# Altium footprint library MCU_PcbLib.PcbLib: 21 footprints (part 1 of 2)
Each footprint in its own frame and in the unit in brackets; x right, y up, seen from the top. Pads: shape width x height; smd on the part's side, far side on the other; paste and mask are expansions set on the pad; w line width, h text height; cw(c..) or ccw(c..) is an arc to the next point about the centre after c.
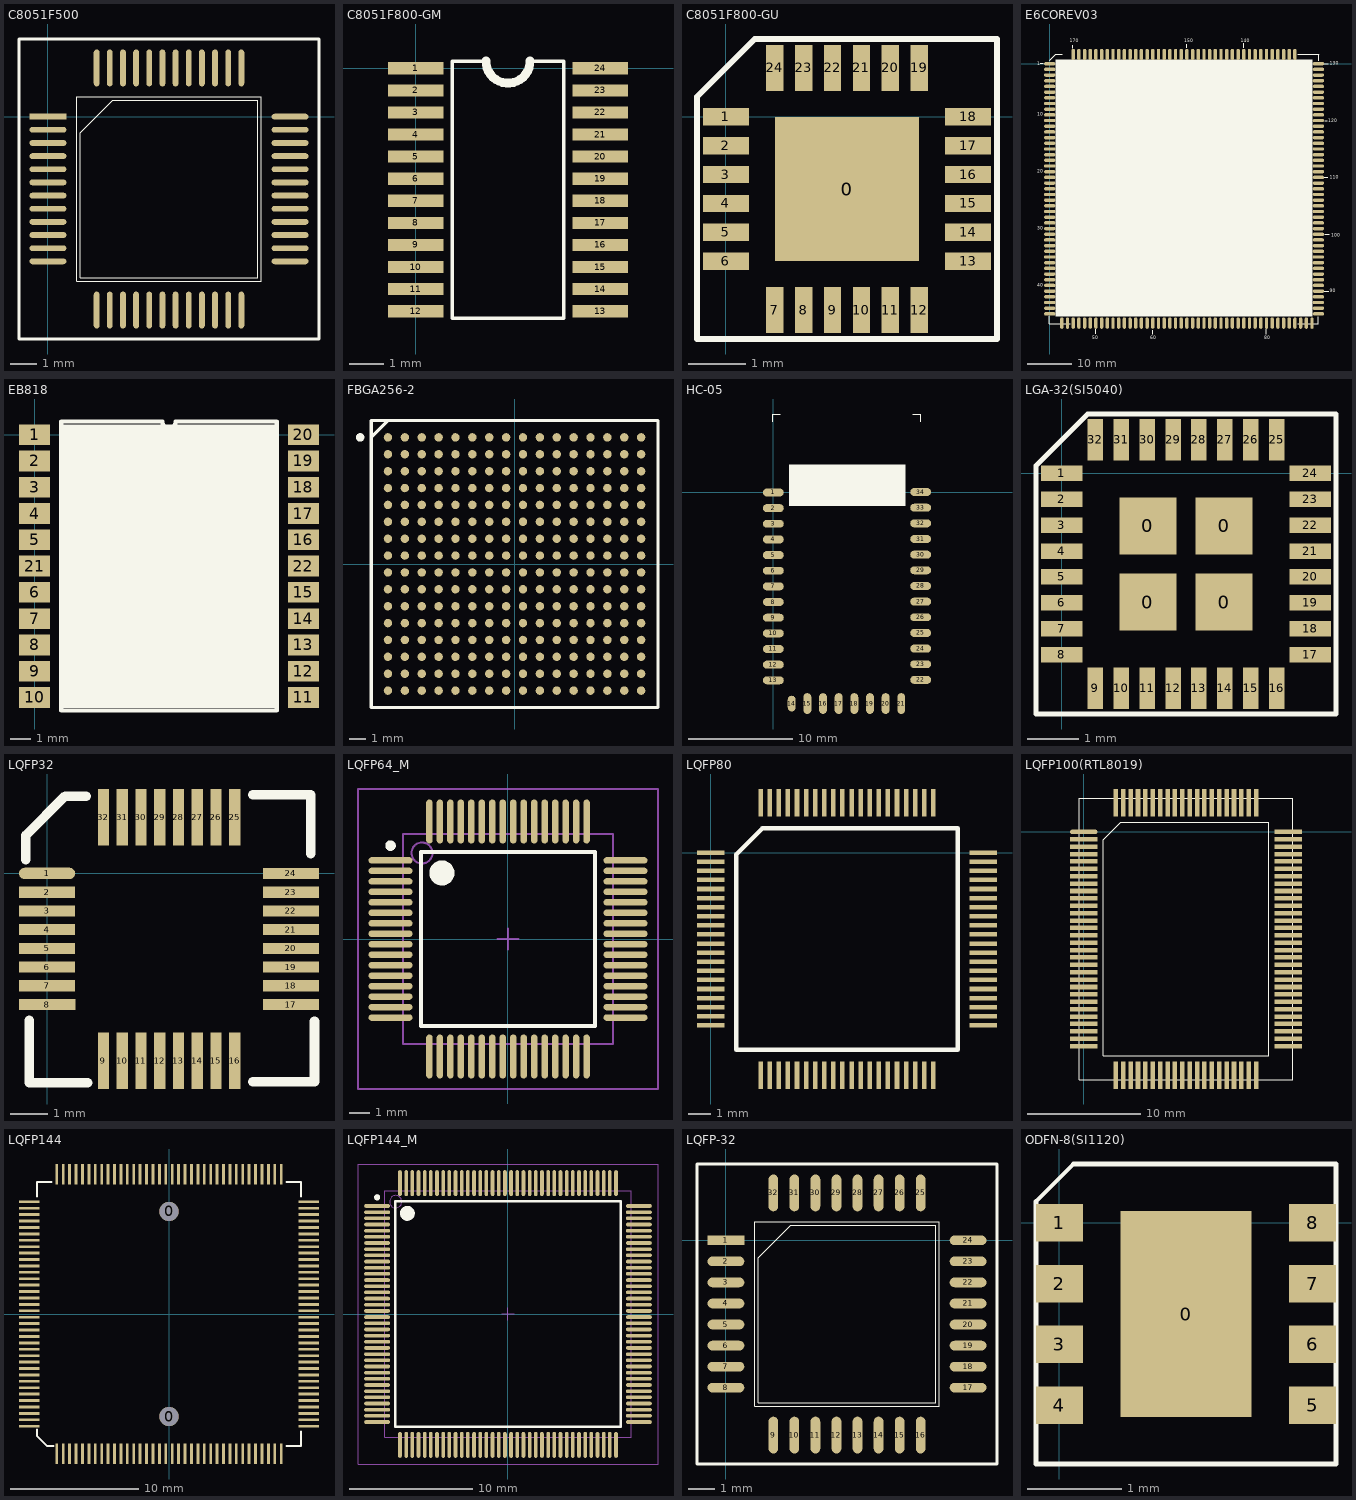
[diagram p0: the footprints below, top view; thin cyan lines are the x and y axes]

## C8051F500 [mm]
pads (48):
  rect 1.4x0.22 smd: 1(0,0)
  oval 1.4x0.22 smd: 2(0,-0.5) 3(0,-1) 4(0,-1.5) 5(0,-2) 6(0,-2.5) 7(0,-3) 8(0,-3.5) 9(0,-4) 10(0,-4.5) 11(0,-5) 12(0,-5.5) 25(9.2,-5.5) 26(9.2,-5) 27(9.2,-4.5) 28(9.2,-4) 29(9.2,-3.5) 30(9.2,-3) 31(9.2,-2.5) 32(9.2,-2) 33(9.2,-1.5) 34(9.2,-1) 35(9.2,-0.5) 36(9.2,0)
  oval 0.22x1.4 smd: 13(1.85,-7.35) 14(2.35,-7.35) 15(2.85,-7.35) 16(3.35,-7.35) 17(3.85,-7.35) 18(4.35,-7.35) 19(4.85,-7.35) 20(5.35,-7.35) 21(5.85,-7.35) 22(6.35,-7.35) 23(6.85,-7.35) 24(7.35,-7.35) 37(7.35,1.85) 38(6.85,1.85) 39(6.35,1.85) 40(5.85,1.85) 41(5.35,1.85) 42(4.85,1.85) 43(4.35,1.85) 44(3.85,1.85) 45(3.35,1.85) 46(2.85,1.85) 47(2.35,1.85) 48(1.85,1.85)
Top Overlay:
  lines w0.025: 1.1,-6.25 1.1,-2.75 1.1,0.675 1.1,0.75 8.1,0.75 8.1,-6.25 1.1,-6.25 ; 1.235,-6.115 7.965,-6.115 7.965,0.615 2.47,0.615 1.235,-0.62 1.235,-6.115
  lines w0.102: -1.1,-8.45 10.3,-8.45 10.3,2.95 -1.1,2.95 -1.1,-8.45

## C8051F800-GM [mm]
pads (24):
  rect 1.6x0.35 smd: 1(0,0) 2(0,-0.635) 3(0,-1.27) 4(0,-1.905) 5(0,-2.54) 6(0,-3.175) 7(0,-3.81) 8(0,-4.445) 9(0,-5.08) 10(0,-5.715) 11(0,-6.35) 12(0,-6.985) 13(5.3,-6.985) 14(5.3,-6.35) 15(5.3,-5.715) 16(5.3,-5.08) 17(5.3,-4.445) 18(5.3,-3.81) 19(5.3,-3.175) 20(5.3,-2.54) 21(5.3,-1.905) 22(5.3,-1.27) 23(5.3,-0.635) 24(5.3,0)
Top Overlay:
  lines w0.1: 2.015,0.208 1.05,0.208 1.05,-7.193 4.25,-7.193 4.25,0.208 3.285,0.208
  lines w0.254: 2.015,0.208 ccw(c2.65,0.208) 3.285,0.208

## C8051F800-GU [mm]
pads (25):
  rect 2.5x2.5 smd: 0(2.1,-1.25)
  rect 0.8x0.3 smd: 1(0,0) 2(0,-0.5) 3(0,-1) 4(0,-1.5) 5(0,-2) 6(0,-2.5) 13(4.2,-2.5) 14(4.2,-2) 15(4.2,-1.5) 16(4.2,-1) 17(4.2,-0.5) 18(4.2,0)
  rect 0.3x0.8 smd: 7(0.85,-3.35) 8(1.35,-3.35) 9(1.85,-3.35) 10(2.35,-3.35) 11(2.85,-3.35) 12(3.35,-3.35) 19(3.35,0.85) 20(2.85,0.85) 21(2.35,0.85) 22(1.85,0.85) 23(1.35,0.85) 24(0.85,0.85)
Top Overlay:
  lines w0.1: -0.5,-3.85 4.7,-3.85 4.7,1.35 0.5,1.35 -0.5,0.35 -0.5,-3.85

## E6COREV03 [mil]
pads (175):
  oval 100x30 smd: 1(0,0) 2(0,-50) 3(0,-100) 4(0,-150) 5(0,-200) 6(0,-250) 7(0,-300) 8(0,-350) 9(0,-400) 10(0,-450) 11(0,-500) 12(0,-550) 13(0,-600) 14(0,-650) 15(0,-700) 16(0,-750) 17(0,-800) 18(0,-850) 19(0,-900) 20(0,-950) 21(0,-1000) 22(0,-1050) 23(0,-1100) 24(0,-1150) 25(0,-1200) 26(0,-1250) 27(0,-1300) 28(0,-1350) 29(0,-1400) 30(0,-1450) 31(0,-1500) 32(0,-1550) 33(0,-1600) 34(0,-1650) 35(0,-1700) 36(0,-1750) 37(0,-1800) 38(0,-1850) 39(0,-1900) 40(0,-1950) 41(0,-2000) 42(0,-2050) 43(0,-2100) 44(0,-2150) 45(0,-2200) 86(2362.2,-2200) 87(2362.2,-2150) 88(2362.2,-2100) 89(2362.2,-2050) 90(2362.2,-2000) 91(2362.2,-1950) 92(2362.2,-1900) 93(2362.2,-1850) 94(2362.2,-1800) 95(2362.2,-1750) 96(2362.2,-1700) 97(2362.2,-1650) 98(2362.2,-1600) 99(2362.2,-1550) 100(2362.2,-1500) 101(2362.2,-1450) 102(2362.2,-1400) 103(2362.2,-1350) 104(2362.2,-1300) 105(2362.2,-1250) 106(2362.2,-1200) 107(2362.2,-1150) 108(2362.2,-1100) 109(2362.2,-1050) 110(2362.2,-1000) 111(2362.2,-950) 112(2362.2,-900) 113(2362.2,-850) 114(2362.2,-800) 115(2362.2,-750) 116(2362.2,-700) 117(2362.2,-650) 118(2362.2,-600) 119(2362.2,-550) 120(2362.2,-500) 121(2362.2,-450) 122(2362.2,-400) 123(2362.2,-350) 124(2362.2,-300) 125(2362.2,-250) 126(2362.2,-200) 127(2362.2,-150) 128(2362.2,-100) 129(2362.2,-50) 130(2362.2,0)
  oval 30x100 smd: 46(206.1,-2281.1) 47(256.1,-2281.1) 48(306.1,-2281.1) 49(356.1,-2281.1) 50(406.1,-2281.1) 51(456.1,-2281.1) 52(506.1,-2281.1) 53(556.1,-2281.1) 54(606.1,-2281.1) 55(656.1,-2281.1) 56(706.1,-2281.1) 57(756.1,-2281.1) 58(806.1,-2281.1) 59(856.1,-2281.1) 60(906.1,-2281.1) 61(956.1,-2281.1) 62(1006.1,-2281.1) 63(1056.1,-2281.1) 64(1106.1,-2281.1) 65(1156.1,-2281.1) 66(1206.1,-2281.1) 67(1256.1,-2281.1) 68(1306.1,-2281.1) 69(1356.1,-2281.1) 70(1406.1,-2281.1) 71(1456.1,-2281.1) 72(1506.1,-2281.1) 73(1556.1,-2281.1) 74(1606.1,-2281.1) 75(1656.1,-2281.1) 76(1706.1,-2281.1) 77(1756.1,-2281.1) 78(1806.1,-2281.1) 79(1856.1,-2281.1) 80(1906.1,-2281.1) 81(1956.1,-2281.1) 82(2006.1,-2281.1) 83(2056.1,-2281.1) 84(2106.1,-2281.1) 85(2156.1,-2281.1) 131(2156.1,81.1) 132(2106.1,81.1) 133(2056.1,81.1) 134(2006.1,81.1) 135(1956.1,81.1) 136(1906.1,81.1) 137(1856.1,81.1) 138(1806.1,81.1) 139(1756.1,81.1) 140(1706.1,81.1) 141(1656.1,81.1) 142(1606.1,81.1) 143(1556.1,81.1) 144(1506.1,81.1) 145(1456.1,81.1) 146(1406.1,81.1) 147(1356.1,81.1) 148(1306.1,81.1) 149(1256.1,81.1) 150(1206.1,81.1) 151(1156.1,81.1) 152(1106.1,81.1) 153(1056.1,81.1) 154(1006.1,81.1) 155(956.1,81.1) 156(906.1,81.1) 157(856.1,81.1) 158(806.1,81.1) 159(756.1,81.1) 160(706.1,81.1) 161(656.1,81.1) 162(606.1,81.1) 163(556.1,81.1) 164(506.1,81.1) 165(456.1,81.1) 166(406.1,81.1) 167(356.1,81.1) 168(306.1,81.1) 169(256.1,81.1) 170(206.1,81.1) A1(106.1,-2281.1) A2(156.1,-2281.1) A3(2206.1,-2281.1) A4(2256.1,-2281.1) A5(2306.1,-2281.1)
Top Overlay:
  rectangle: 50.1,-2223.1 2310.1,34.9
  lines w5: -3.9,-2220 -3.9,-2285 6.1,-2285 181.1,-2285 ; 2181.1,-2285 2361.1,-2285 2361.1,-2225 ; 2181.1,85 2361.1,85 2366.1,80 2366.1,25
  lines w6: -81.9,2 -57.9,2 ; 202.1,137 202.1,161 203.1,162 ; 404.1,-2377 404.1,-2336 ; 907.1,-2378 907.1,-2344 ; 1206.1,138 1206.1,172 ; 1706.1,139 1706.1,178 ; 1904.1,-2381 1904.1,-2337 ; 2414.1,-1999 2452.1,-1999 ; 2414.1,1 2436.1,1 ; 2415.1,-998 2445.1,-998 ; 2416.1,-1501.1 2439.1,-1501.1 ; 2417.1,-500 2439.1,-500 ; 2434.1,1 2450.1,1 ; 2441.1,-1501.1 2456.1,-1501.1
  lines w7.87: 0,29.92 51.18,81.1 110.23,81.1
  lines w10: 0,29.92 51.18,81.1
  text "10" at -109.9,-460 h30
  text "1" at -109.9,-14 h30
  text "20" at -109.9,-959 h30
  text "30" at -109.9,-1459 h30
  text "40" at -109.9,-1960 h30
  text "50" at 375.1,-2421 h30
  text "60" at 885.1,-2421 h30
  text "80" at 1887.1,-2421 h30
  text "90" at 2460.1,-2011 h30
  text "100" at 2476.1,-1521.1 h30
  text "110" at 2460.1,-1013 h30
  text "120" at 2447.1,-514 h30
  text "130" at 2460.1,-11 h30
  text "140" at 1680.1,187 h30
  text "150" at 1183.1,187 h30
  text "170" at 175.1,187 h30
Keep-Out Layer:
  lines w5: 615.1,-1497.6 1768.1,-1497.6 1767.75,-1497.25 1767.75,-1472 ; 624.1,-1497.6 547.7,-1497.6 547.28,-1497.18 547.28,-1480 547.28,-592.91 548.1,-592.09 1767.67,-592.09 1767.67,-1472.91 1767.75,-1473

## EB818 [mm]
pads (22):
  rect 1.5x1 smd: 1(0,0) 2(0,-1.27) 3(0,-2.54) 4(0,-3.81) 5(0,-5.08) 6(0,-7.62) 7(0,-8.89) 8(0,-10.16) 9(0,-11.43) 10(0,-12.7) 11(13,-12.7) 12(13,-11.43) 13(13,-10.16) 14(13,-8.89) 15(13,-7.62) 16(13,-5.08) 17(13,-3.81) 18(13,-2.54) 19(13,-1.27) 20(13,0) 21(0,-6.35) 22(13,-6.35)
Top Overlay:
  rectangle: 1.399,-13.218 11.705,0.498
  lines w0.2: 1.295,-13.335 11.705,-13.335 11.705,0.635 6.817,0.635 cw(c6.5,0.635) 6.182,0.635 1.295,0.635 1.295,-13.335

## FBGA256-2 [mm]
pads (256):
  round 0.5 smd: A1(-7.5,7.5) A2(-6.5,7.5) A3(-5.5,7.5) A4(-4.5,7.5) A5(-3.5,7.5) A6(-2.5,7.5) A7(-1.5,7.5) A8(-0.5,7.5) A9(0.5,7.5) A10(1.5,7.5) A11(2.5,7.5) A12(3.5,7.5) A13(4.5,7.5) A14(5.5,7.5) A15(6.5,7.5) A16(7.5,7.5) B1(-7.5,6.5) B2(-6.5,6.5) B3(-5.5,6.5) B4(-4.5,6.5) B5(-3.5,6.5) B6(-2.5,6.5) B7(-1.5,6.5) B8(-0.5,6.5) B9(0.5,6.5) B10(1.5,6.5) B11(2.5,6.5) B12(3.5,6.5) B13(4.5,6.5) B14(5.5,6.5) B15(6.5,6.5) B16(7.5,6.5) C1(-7.5,5.5) C2(-6.5,5.5) C3(-5.5,5.5) C4(-4.5,5.5) C5(-3.5,5.5) C6(-2.5,5.5) C7(-1.5,5.5) C8(-0.5,5.5) C9(0.5,5.5) C10(1.5,5.5) C11(2.5,5.5) C12(3.5,5.5) C13(4.5,5.5) C14(5.5,5.5) C15(6.5,5.5) C16(7.5,5.5) D1(-7.5,4.5) D2(-6.5,4.5) D3(-5.5,4.5) D4(-4.5,4.5) D5(-3.5,4.5) D6(-2.5,4.5) D7(-1.5,4.5) D8(-0.5,4.5) D9(0.5,4.5) D10(1.5,4.5) D11(2.5,4.5) D12(3.5,4.5) D13(4.5,4.5) D14(5.5,4.5) D15(6.5,4.5) D16(7.5,4.5) E1(-7.5,3.5) E2(-6.5,3.5) E3(-5.5,3.5) E4(-4.5,3.5) E5(-3.5,3.5) E6(-2.5,3.5) E7(-1.5,3.5) E8(-0.5,3.5) E9(0.5,3.5) E10(1.5,3.5) E11(2.5,3.5) E12(3.5,3.5) E13(4.5,3.5) E14(5.5,3.5) E15(6.5,3.5) E16(7.5,3.5) F1(-7.5,2.5) F2(-6.5,2.5) F3(-5.5,2.5) F4(-4.5,2.5) F5(-3.5,2.5) F6(-2.5,2.5) F7(-1.5,2.5) F8(-0.5,2.5) F9(0.5,2.5) F10(1.5,2.5) F11(2.5,2.5) F12(3.5,2.5) F13(4.5,2.5) F14(5.5,2.5) F15(6.5,2.5) F16(7.5,2.5) G1(-7.5,1.5) G2(-6.5,1.5) G3(-5.5,1.5) G4(-4.5,1.5) G5(-3.5,1.5) G6(-2.5,1.5) G7(-1.5,1.5) G8(-0.5,1.5) G9(0.5,1.5) G10(1.5,1.5) G11(2.5,1.5) G12(3.5,1.5) G13(4.5,1.5) G14(5.5,1.5) G15(6.5,1.5) G16(7.5,1.5) H1(-7.5,0.5) H2(-6.5,0.5) H3(-5.5,0.5) H4(-4.5,0.5) H5(-3.5,0.5) H6(-2.5,0.5) H7(-1.5,0.5) H8(-0.5,0.5) H9(0.5,0.5) H10(1.5,0.5) H11(2.5,0.5) H12(3.5,0.5) H13(4.5,0.5) H14(5.5,0.5) H15(6.5,0.5) H16(7.5,0.5) J1(-7.5,-0.5) J2(-6.5,-0.5) J3(-5.5,-0.5) J4(-4.5,-0.5) J5(-3.5,-0.5) J6(-2.5,-0.5) J7(-1.5,-0.5) J8(-0.5,-0.5) J9(0.5,-0.5) J10(1.5,-0.5) J11(2.5,-0.5) J12(3.5,-0.5) J13(4.5,-0.5) J14(5.5,-0.5) J15(6.5,-0.5) J16(7.5,-0.5) K1(-7.5,-1.5) K2(-6.5,-1.5) K3(-5.5,-1.5) K4(-4.5,-1.5) K5(-3.5,-1.5) K6(-2.5,-1.5) K7(-1.5,-1.5) K8(-0.5,-1.5) K9(0.5,-1.5) K10(1.5,-1.5) K11(2.5,-1.5) K12(3.5,-1.5) K13(4.5,-1.5) K14(5.5,-1.5) K15(6.5,-1.5) K16(7.5,-1.5) L1(-7.5,-2.5) L2(-6.5,-2.5) L3(-5.5,-2.5) L4(-4.5,-2.5) L5(-3.5,-2.5) L6(-2.5,-2.5) L7(-1.5,-2.5) L8(-0.5,-2.5) L9(0.5,-2.5) L10(1.5,-2.5) L11(2.5,-2.5) L12(3.5,-2.5) L13(4.5,-2.5) L14(5.5,-2.5) L15(6.5,-2.5) L16(7.5,-2.5) M1(-7.5,-3.5) M2(-6.5,-3.5) M3(-5.5,-3.5) M4(-4.5,-3.5) M5(-3.5,-3.5) M6(-2.5,-3.5) M7(-1.5,-3.5) M8(-0.5,-3.5) M9(0.5,-3.5) M10(1.5,-3.5) M11(2.5,-3.5) M12(3.5,-3.5) M13(4.5,-3.5) M14(5.5,-3.5) M15(6.5,-3.5) M16(7.5,-3.5) N1(-7.5,-4.5) N2(-6.5,-4.5) N3(-5.5,-4.5) N4(-4.5,-4.5) N5(-3.5,-4.5) N6(-2.5,-4.5) N7(-1.5,-4.5) N8(-0.5,-4.5) N9(0.5,-4.5) N10(1.5,-4.5) N11(2.5,-4.5) N12(3.5,-4.5) N13(4.5,-4.5) N14(5.5,-4.5) N15(6.5,-4.5) N16(7.5,-4.5) P1(-7.5,-5.5) P2(-6.5,-5.5) P3(-5.5,-5.5) P4(-4.5,-5.5) P5(-3.5,-5.5) P6(-2.5,-5.5) P7(-1.5,-5.5) P8(-0.5,-5.5) P9(0.5,-5.5) P10(1.5,-5.5) P11(2.5,-5.5) P12(3.5,-5.5) P13(4.5,-5.5) P14(5.5,-5.5) P15(6.5,-5.5) P16(7.5,-5.5) R1(-7.5,-6.5) R2(-6.5,-6.5) R3(-5.5,-6.5) R4(-4.5,-6.5) R5(-3.5,-6.5) R6(-2.5,-6.5) R7(-1.5,-6.5) R8(-0.5,-6.5) R9(0.5,-6.5) R10(1.5,-6.5) R11(2.5,-6.5) R12(3.5,-6.5) R13(4.5,-6.5) R14(5.5,-6.5) R15(6.5,-6.5) R16(7.5,-6.5) T1(-7.5,-7.5) T2(-6.5,-7.5) T3(-5.5,-7.5) T4(-4.5,-7.5) T5(-3.5,-7.5) T6(-2.5,-7.5) T7(-1.5,-7.5) T8(-0.5,-7.5) T9(0.5,-7.5) T10(1.5,-7.5) T11(2.5,-7.5) T12(3.5,-7.5) T13(4.5,-7.5) T14(5.5,-7.5) T15(6.5,-7.5) T16(7.5,-7.5)
Top Overlay:
  circle w0.25: c-9.15,7.5 r0.125
  lines w0.2: -8.5,7.5 -7.5,8.5 ; -8.5,-8.5 8.5,-8.5 8.5,8.5 -8.5,8.5 -8.5,-8.5

## HC-05 [mm]
pads (34):
  oval 2x0.76 smd: 1(0,0) 2(0,-1.5) 3(0,-3) 4(0,-4.5) 5(0,-6) 6(0,-7.5) 7(0,-9) 8(0,-10.5) 9(0,-12) 10(0,-13.5) 11(0,-15) 12(0,-16.5) 13(0,-18) 22(14.12,-17.96) 23(14.12,-16.46) 24(14.12,-14.96) 25(14.12,-13.46) 26(14.12,-11.96) 27(14.12,-10.46) 28(14.12,-8.96) 29(14.12,-7.46) 30(14.12,-5.96) 31(14.12,-4.46) 32(14.12,-2.96) 33(14.12,-1.46) 34(14.12,0.04)
  oval 0.76x1.5 smd: 14(1.76,-20.23)
  oval 0.76x2 smd: 15(3.26,-20.23) 16(4.76,-20.23) 17(6.26,-20.23) 18(7.76,-20.23) 19(9.26,-20.23) 20(10.76,-20.23) 21(12.26,-20.23)
Top Overlay:
  region: 12.679,-1.305 12.679,2.695 1.479,2.695 1.479,-1.305
  lines w0.1: -0.07,6.77 -0.07,7.52 0.68,7.52 ; 13.38,7.52 14.13,7.52 14.13,6.77

## LGA-32(SI5040) [mm]
pads (36):
  rect 1.1x1.1 smd: 0(1.665,-2.485) 0(1.665,-1.015) 0(3.135,-2.485) 0(3.135,-1.015)
  rect 0.8x0.3 smd: 1(0,0) 2(0,-0.5) 3(0,-1) 4(0,-1.5) 5(0,-2) 6(0,-2.5) 7(0,-3) 8(0,-3.5) 17(4.8,-3.5) 18(4.8,-3) 19(4.8,-2.5) 20(4.8,-2) 21(4.8,-1.5) 22(4.8,-1) 23(4.8,-0.5) 24(4.8,0)
  rect 0.3x0.8 smd: 9(0.65,-4.15) 10(1.15,-4.15) 11(1.65,-4.15) 12(2.15,-4.15) 13(2.65,-4.15) 14(3.15,-4.15) 15(3.65,-4.15) 16(4.15,-4.15) 25(4.15,0.65) 26(3.65,0.65) 27(3.15,0.65) 28(2.65,0.65) 29(2.15,0.65) 30(1.65,0.65) 31(1.15,0.65) 32(0.65,0.65)
Top Overlay:
  lines w0.1: -0.5,-4.65 -0.5,0.15 0.5,1.15 5.3,1.15 5.3,-4.65 -0.5,-4.65

## LQFP32 [mm]
pads (32):
  oval 1.5x0.3 smd: 1(0,0)
  rect 1.5x0.3 smd: 2(0,-0.5) 3(0,-1) 4(0,-1.5) 5(0,-2) 6(0,-2.5) 7(0,-3) 8(0,-3.5) 17(6.5,-3.5) 18(6.5,-3) 19(6.5,-2.5) 20(6.5,-2) 21(6.5,-1.5) 22(6.5,-1) 23(6.5,-0.5) 24(6.5,0)
  rect 0.3x1.5 smd: 9(1.5,-5) 10(2,-5) 11(2.5,-5) 12(3,-5) 13(3.5,-5) 14(4,-5) 15(4.5,-5) 16(5,-5) 25(5,1.5) 26(4.5,1.5) 27(4,1.5) 28(3.5,1.5) 29(3,1.5) 30(2.5,1.5) 31(2,1.5) 32(1.5,1.5)
Top Overlay:
  lines w0.254: -0.57,0.36 -0.57,1.01 0.48,2.06 1.04,2.06 ; -0.48,-3.92 -0.48,-5.58 1.08,-5.58 ; 5.48,-5.56 7.13,-5.56 7.13,-3.94 ; 5.48,2.1 7.03,2.1 7.03,0.53

## LQFP64_M [mm]
pads (64):
  oval 2.1x0.3 smd: 1(-5.6,3.75) 2(-5.6,3.25) 3(-5.6,2.75) 4(-5.6,2.25) 5(-5.6,1.75) 6(-5.6,1.25) 7(-5.6,0.75) 8(-5.6,0.25) 9(-5.6,-0.25) 10(-5.6,-0.75) 11(-5.6,-1.25) 12(-5.6,-1.75) 13(-5.6,-2.25) 14(-5.6,-2.75) 15(-5.6,-3.25) 16(-5.6,-3.75) 33(5.6,-3.75) 34(5.6,-3.25) 35(5.6,-2.75) 36(5.6,-2.25) 37(5.6,-1.75) 38(5.6,-1.25) 39(5.6,-0.75) 40(5.6,-0.25) 41(5.6,0.25) 42(5.6,0.75) 43(5.6,1.25) 44(5.6,1.75) 45(5.6,2.25) 46(5.6,2.75) 47(5.6,3.25) 48(5.6,3.75)
  oval 0.3x2.1 smd: 17(-3.75,-5.6) 18(-3.25,-5.6) 19(-2.75,-5.6) 20(-2.25,-5.6) 21(-1.75,-5.6) 22(-1.25,-5.6) 23(-0.75,-5.6) 24(-0.25,-5.6) 25(0.25,-5.6) 26(0.75,-5.6) 27(1.25,-5.6) 28(1.75,-5.6) 29(2.25,-5.6) 30(2.75,-5.6) 31(3.25,-5.6) 32(3.75,-5.6) 49(3.75,5.6) 50(3.25,5.6) 51(2.75,5.6) 52(2.25,5.6) 53(1.75,5.6) 54(1.25,5.6) 55(0.75,5.6) 56(0.25,5.6) 57(-0.25,5.6) 58(-0.75,5.6) 59(-1.25,5.6) 60(-1.75,5.6) 61(-2.25,5.6) 62(-2.75,5.6) 63(-3.25,5.6) 64(-3.75,5.6)
Top Overlay:
  circle w0.6: c-3.15,3.15 r0.3
  circle w0.25: c-5.6,4.45 r0.125
  lines w0.2: -4.15,-4.15 4.15,-4.15 4.15,4.15 -4.15,4.15 -4.15,-4.15
Mechanical 13:
  circle w0.1: c-4.1,4.1 r0.5
  lines w0.1: -5,-5 5,-5 5,5 -5,5 -5,-5
Mechanical 15:
  lines w0.1: -0.5,0 0.5,0 ; 0,-0.5 0,0.5 ; -7.15,-7.15 7.15,-7.15 7.15,7.15 -7.15,7.15 -7.15,-7.15

## LQFP80 [mm]
pads (80):
  rect 1.2x0.2 smd: 1(0,0) 2(0,-0.4) 3(0,-0.8) 4(0,-1.2) 5(0,-1.6) 6(0,-2) 7(0,-2.4) 8(0,-2.8) 9(0,-3.2) 10(0,-3.6) 11(0,-4) 12(0,-4.4) 13(0,-4.8) 14(0,-5.2) 15(0,-5.6) 16(0,-6) 17(0,-6.4) 18(0,-6.8) 19(0,-7.2) 20(0,-7.6) 41(12,-7.6) 42(12,-7.2) 43(12,-6.8) 44(12,-6.4) 45(12,-6) 46(12,-5.6) 47(12,-5.2) 48(12,-4.8) 49(12,-4.4) 50(12,-4) 51(12,-3.6) 52(12,-3.2) 53(12,-2.8) 54(12,-2.4) 55(12,-2) 56(12,-1.6) 57(12,-1.2) 58(12,-0.8) 59(12,-0.4) 60(12,0)
  rect 0.2x1.2 smd: 21(2.2,-9.8) 22(2.6,-9.8) 23(3,-9.8) 24(3.4,-9.8) 25(3.8,-9.8) 26(4.2,-9.8) 27(4.6,-9.8) 28(5,-9.8) 29(5.4,-9.8) 30(5.8,-9.8) 31(6.2,-9.8) 32(6.6,-9.8) 33(7,-9.8) 34(7.4,-9.8) 35(7.8,-9.8) 36(8.2,-9.8) 37(8.6,-9.8) 38(9,-9.8) 39(9.4,-9.8) 40(9.8,-9.8) 61(9.8,2.2) 62(9.4,2.2) 63(9,2.2) 64(8.6,2.2) 65(8.2,2.2) 66(7.8,2.2) 67(7.4,2.2) 68(7,2.2) 69(6.6,2.2) 70(6.2,2.2) 71(5.8,2.2) 72(5.4,2.2) 73(5,2.2) 74(4.6,2.2) 75(4.2,2.2) 76(3.8,2.2) 77(3.4,2.2) 78(3,2.2) 79(2.6,2.2) 80(2.2,2.2)
Top Overlay:
  lines w0.2: 1.135,-8.665 1.135,-0.07 2.27,1.065 10.865,1.065 10.865,-8.665 1.135,-8.665

## LQFP100(RTL8019) [mm]
pads (100):
  oval 2.4x0.4 smd: 1(0,0)
  rect 2.4x0.4 smd: 2(0,-0.65) 3(0,-1.3) 4(0,-1.95) 5(0,-2.6) 6(0,-3.25) 7(0,-3.9) 8(0,-4.55) 9(0,-5.2) 10(0,-5.85) 11(0,-6.5) 12(0,-7.15) 13(0,-7.8) 14(0,-8.45) 15(0,-9.1) 16(0,-9.75) 17(0,-10.4) 18(0,-11.05) 19(0,-11.7) 20(0,-12.35) 21(0,-13) 22(0,-13.65) 23(0,-14.3) 24(0,-14.95) 25(0,-15.6) 26(0,-16.25) 27(0,-16.9) 28(0,-17.55) 29(0,-18.2) 30(0,-18.85) 51(18,-18.85) 52(18,-18.2) 53(18,-17.55) 54(18,-16.9) 55(18,-16.25) 56(18,-15.6) 57(18,-14.95) 58(18,-14.3) 59(18,-13.65) 60(18,-13) 61(18,-12.35) 62(18,-11.7) 63(18,-11.05) 64(18,-10.4) 65(18,-9.75) 66(18,-9.1) 67(18,-8.45) 68(18,-7.8) 69(18,-7.15) 70(18,-6.5) 71(18,-5.85) 72(18,-5.2) 73(18,-4.55) 74(18,-3.9) 75(18,-3.25) 76(18,-2.6) 77(18,-1.95) 78(18,-1.3) 79(18,-0.65) 80(18,0)
  rect 0.4x2.4 smd: 31(2.825,-21.425) 32(3.475,-21.425) 33(4.125,-21.425) 34(4.775,-21.425) 35(5.425,-21.425) 36(6.075,-21.425) 37(6.725,-21.425) 38(7.375,-21.425) 39(8.025,-21.425) 40(8.675,-21.425) 41(9.325,-21.425) 42(9.975,-21.425) 43(10.625,-21.425) 44(11.275,-21.425) 45(11.925,-21.425) 46(12.575,-21.425) 47(13.225,-21.425) 48(13.875,-21.425) 49(14.525,-21.425) 50(15.175,-21.425) 81(15.175,2.575) 82(14.525,2.575) 83(13.875,2.575) 84(13.225,2.575) 85(12.575,2.575) 86(11.925,2.575) 87(11.275,2.575) 88(10.625,2.575) 89(9.975,2.575) 90(9.325,2.575) 91(8.675,2.575) 92(8.025,2.575) 93(7.375,2.575) 94(6.725,2.575) 95(6.075,2.575) 96(5.425,2.575) 97(4.775,2.575) 98(4.125,2.575) 99(3.475,2.575) 100(2.825,2.575)
Top Overlay:
  lines w0.1: -0.4,-21.825 18.4,-21.825 18.4,2.975 -0.4,2.975 -0.4,-21.825 ; 1.735,-19.69 1.735,-0.695 3.27,0.84 16.265,0.84 16.265,-19.69 1.735,-19.69

## LQFP144 [mm]
pads (146):
  round 1.5 hole 1.5 unplated: 0(0,-8) 0(0,8)
  rect 0.22x1.6 smd: 1(-8.75,-10.9) 2(-8.25,-10.9) 3(-7.75,-10.9) 4(-7.25,-10.9) 5(-6.75,-10.9) 6(-6.25,-10.9) 7(-5.75,-10.9) 8(-5.25,-10.9) 9(-4.75,-10.9) 10(-4.25,-10.9) 11(-3.75,-10.9) 12(-3.25,-10.9) 13(-2.75,-10.9) 14(-2.25,-10.9) 15(-1.75,-10.9) 16(-1.25,-10.9) 17(-0.75,-10.9) 18(-0.25,-10.9) 19(0.25,-10.9) 20(0.75,-10.9) 21(1.25,-10.9) 22(1.75,-10.9) 23(2.25,-10.9) 24(2.75,-10.9) 25(3.25,-10.9) 26(3.75,-10.9) 27(4.25,-10.9) 28(4.75,-10.9) 29(5.25,-10.9) 30(5.75,-10.9) 31(6.25,-10.9) 32(6.75,-10.9) 33(7.25,-10.9) 34(7.75,-10.9) 35(8.25,-10.9) 36(8.75,-10.9) 73(8.75,10.9) 74(8.25,10.9) 75(7.75,10.9) 76(7.25,10.9) 77(6.75,10.9) 78(6.25,10.9) 79(5.75,10.9) 80(5.25,10.9) 81(4.75,10.9) 82(4.25,10.9) 83(3.75,10.9) 84(3.25,10.9) 85(2.75,10.9) 86(2.25,10.9) 87(1.75,10.9) 88(1.25,10.9) 89(0.75,10.9) 90(0.25,10.9) 91(-0.25,10.9) 92(-0.75,10.9) 93(-1.25,10.9) 94(-1.75,10.9) 95(-2.25,10.9) 96(-2.75,10.9) 97(-3.25,10.9) 98(-3.75,10.9) 99(-4.25,10.9) 100(-4.75,10.9) 101(-5.25,10.9) 102(-5.75,10.9) 103(-6.25,10.9) 104(-6.75,10.9) 105(-7.25,10.9) 106(-7.75,10.9) 107(-8.25,10.9) 108(-8.75,10.9)
  rect 1.6x0.22 smd: 37(10.9,-8.75) 38(10.9,-8.25) 39(10.9,-7.75) 40(10.9,-7.25) 41(10.9,-6.75) 42(10.9,-6.25) 43(10.9,-5.75) 44(10.9,-5.25) 45(10.9,-4.75) 46(10.9,-4.25) 47(10.9,-3.75) 48(10.9,-3.25) 49(10.9,-2.75) 50(10.9,-2.25) 51(10.9,-1.75) 52(10.9,-1.25) 53(10.9,-0.75) 54(10.9,-0.25) 55(10.9,0.25) 56(10.9,0.75) 57(10.9,1.25) 58(10.9,1.75) 59(10.9,2.25) 60(10.9,2.75) 61(10.9,3.25) 62(10.9,3.75) 63(10.9,4.25) 64(10.9,4.75) 65(10.9,5.25) 66(10.9,5.75) 67(10.9,6.25) 68(10.9,6.75) 69(10.9,7.25) 70(10.9,7.75) 71(10.9,8.25) 72(10.9,8.75) 109(-10.9,8.75) 110(-10.9,8.25) 111(-10.9,7.75) 112(-10.9,7.25) 113(-10.9,6.75) 114(-10.9,6.25) 115(-10.9,5.75) 116(-10.9,5.25) 117(-10.9,4.75) 118(-10.9,4.25) 119(-10.9,3.75) 120(-10.9,3.25) 121(-10.9,2.75) 122(-10.9,2.25) 123(-10.9,1.75) 124(-10.9,1.25) 125(-10.9,0.75) 126(-10.9,0.25) 127(-10.9,-0.25) 128(-10.9,-0.75) 129(-10.9,-1.25) 130(-10.9,-1.75) 131(-10.9,-2.25) 132(-10.9,-2.75) 133(-10.9,-3.25) 134(-10.9,-3.75) 135(-10.9,-4.25) 136(-10.9,-4.75) 137(-10.9,-5.25) 138(-10.9,-5.75) 139(-10.9,-6.25) 140(-10.9,-6.75) 141(-10.9,-7.25) 142(-10.9,-7.75) 143(-10.9,-8.25) 144(-10.9,-8.75)
Top Overlay:
  lines w0.152: -10.287,-9.017 -10.287,-9.525 -9.525,-10.287 -9.017,-10.287 ; -10.287,9.144 -10.287,10.287 -9.144,10.287 ; 9.144,-10.287 10.287,-10.287 ; 9.144,10.287 10.287,10.287 10.287,9.144 ; 10.287,-10.16 10.287,-10.287 ; 10.287,-9.144 10.287,-10.287

## LQFP144_M [mm] "Thin QFP, 144-Leads, Body 20x20mm, Pitch 0.5mm, IPC Low Density"
height 1.6
pads (144):
  oval 2.1x0.3 smd: 1(-10.6,8.75) 2(-10.6,8.25) 3(-10.6,7.75) 4(-10.6,7.25) 5(-10.6,6.75) 6(-10.6,6.25) 7(-10.6,5.75) 8(-10.6,5.25) 9(-10.6,4.75) 10(-10.6,4.25) 11(-10.6,3.75) 12(-10.6,3.25) 13(-10.6,2.75) 14(-10.6,2.25) 15(-10.6,1.75) 16(-10.6,1.25) 17(-10.6,0.75) 18(-10.6,0.25) 19(-10.6,-0.25) 20(-10.6,-0.75) 21(-10.6,-1.25) 22(-10.6,-1.75) 23(-10.6,-2.25) 24(-10.6,-2.75) 25(-10.6,-3.25) 26(-10.6,-3.75) 27(-10.6,-4.25) 28(-10.6,-4.75) 29(-10.6,-5.25) 30(-10.6,-5.75) 31(-10.6,-6.25) 32(-10.6,-6.75) 33(-10.6,-7.25) 34(-10.6,-7.75) 35(-10.6,-8.25) 36(-10.6,-8.75) 73(10.6,-8.75) 74(10.6,-8.25) 75(10.6,-7.75) 76(10.6,-7.25) 77(10.6,-6.75) 78(10.6,-6.25) 79(10.6,-5.75) 80(10.6,-5.25) 81(10.6,-4.75) 82(10.6,-4.25) 83(10.6,-3.75) 84(10.6,-3.25) 85(10.6,-2.75) 86(10.6,-2.25) 87(10.6,-1.75) 88(10.6,-1.25) 89(10.6,-0.75) 90(10.6,-0.25) 91(10.6,0.25) 92(10.6,0.75) 93(10.6,1.25) 94(10.6,1.75) 95(10.6,2.25) 96(10.6,2.75) 97(10.6,3.25) 98(10.6,3.75) 99(10.6,4.25) 100(10.6,4.75) 101(10.6,5.25) 102(10.6,5.75) 103(10.6,6.25) 104(10.6,6.75) 105(10.6,7.25) 106(10.6,7.75) 107(10.6,8.25) 108(10.6,8.75)
  oval 0.3x2.1 smd: 37(-8.75,-10.6) 38(-8.25,-10.6) 39(-7.75,-10.6) 40(-7.25,-10.6) 41(-6.75,-10.6) 42(-6.25,-10.6) 43(-5.75,-10.6) 44(-5.25,-10.6) 45(-4.75,-10.6) 46(-4.25,-10.6) 47(-3.75,-10.6) 48(-3.25,-10.6) 49(-2.75,-10.6) 50(-2.25,-10.6) 51(-1.75,-10.6) 52(-1.25,-10.6) 53(-0.75,-10.6) 54(-0.25,-10.6) 55(0.25,-10.6) 56(0.75,-10.6) 57(1.25,-10.6) 58(1.75,-10.6) 59(2.25,-10.6) 60(2.75,-10.6) 61(3.25,-10.6) 62(3.75,-10.6) 63(4.25,-10.6) 64(4.75,-10.6) 65(5.25,-10.6) 66(5.75,-10.6) 67(6.25,-10.6) 68(6.75,-10.6) 69(7.25,-10.6) 70(7.75,-10.6) 71(8.25,-10.6) 72(8.75,-10.6) 109(8.75,10.6) 110(8.25,10.6) 111(7.75,10.6) 112(7.25,10.6) 113(6.75,10.6) 114(6.25,10.6) 115(5.75,10.6) 116(5.25,10.6) 117(4.75,10.6) 118(4.25,10.6) 119(3.75,10.6) 120(3.25,10.6) 121(2.75,10.6) 122(2.25,10.6) 123(1.75,10.6) 124(1.25,10.6) 125(0.75,10.6) 126(0.25,10.6) 127(-0.25,10.6) 128(-0.75,10.6) 129(-1.25,10.6) 130(-1.75,10.6) 131(-2.25,10.6) 132(-2.75,10.6) 133(-3.25,10.6) 134(-3.75,10.6) 135(-4.25,10.6) 136(-4.75,10.6) 137(-5.25,10.6) 138(-5.75,10.6) 139(-6.25,10.6) 140(-6.75,10.6) 141(-7.25,10.6) 142(-7.75,10.6) 143(-8.25,10.6) 144(-8.75,10.6)
Top Overlay:
  circle w0.6: c-8.15,8.15 r0.3
  circle w0.25: c-10.6,9.45 r0.125
  lines w0.2: -9.15,-9.15 9.15,-9.15 9.15,9.15 -9.15,9.15 -9.15,-9.15
Mechanical 13:
  circle w0.1: c-9.1,9.1 r0.5
  lines w0.1: -10,-10 10,-10 10,10 -10,10 -10,-10
Mechanical 15:
  lines w0.05: -12.15,-12.15 12.15,-12.15 12.15,12.15 -12.15,12.15 -12.15,-12.15
  lines w0.1: -0.5,0 0.5,0 ; 0,-0.5 0,0.5
3D body: height 1.6, standoff 0, extent -10,-10 10,10

## LQFP-32 [mm]
pads (32):
  rect 1.4x0.37 smd: 1(0,0)
  oval 1.4x0.37 smd: 2(0,-0.8) 3(0,-1.6) 4(0,-2.4) 5(0,-3.2) 6(0,-4) 7(0,-4.8) 8(0,-5.6) 17(9.2,-5.6) 18(9.2,-4.8) 19(9.2,-4) 20(9.2,-3.2) 21(9.2,-2.4) 22(9.2,-1.6) 23(9.2,-0.8) 24(9.2,0)
  oval 0.37x1.4 smd: 9(1.8,-7.4) 10(2.6,-7.4) 11(3.4,-7.4) 12(4.2,-7.4) 13(5,-7.4) 14(5.8,-7.4) 15(6.6,-7.4) 16(7.4,-7.4) 25(7.4,1.8) 26(6.6,1.8) 27(5.8,1.8) 28(5,1.8) 29(4.2,1.8) 30(3.4,1.8) 31(2.6,1.8) 32(1.8,1.8)
Top Overlay:
  lines w0.025: 1.1,-6.3 1.1,-2.8 1.1,0.7 8.1,0.7 8.1,-6.3 1.1,-6.3 ; 1.235,-6.165 7.965,-6.165 7.965,0.565 2.47,0.565 1.235,-0.67 1.235,-6.165
  lines w0.102: -1.1,-8.5 10.3,-8.5 10.3,2.9 -1.1,2.9 -1.1,-8.5

## ODFN-8(SI1120) [mm]
pads (9):
  rect 1.4x2.2 smd: 0(1.35,-0.975)
  rect 0.5x0.4 smd: 1(0,0) 2(0,-0.65) 3(0,-1.3) 4(0,-1.95) 5(2.7,-1.95) 6(2.7,-1.3) 7(2.7,-0.65) 8(2.7,0)
Top Overlay:
  lines w0.05: -0.25,-2.575 -0.25,0.225 0.15,0.625 2.95,0.625 2.95,-2.575 -0.25,-2.575